# Altium schematic symbol library ATTINY24_x1_p14-1.SchLib: 1 symbol
Pins are listed as number, name and electrical type; pins without a type are passive.

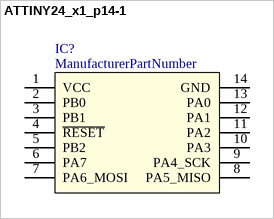
[diagram p0: symbol ATTINY24_x1_p14-1]

## ATTINY24_x1_p14-1
designator IC?
ATTINY24; ManufacturerPartNumber: ManufacturerPartNumber
pins: 1 VCC, 2 PB0, 3 PB1, 4 ~{RESET}, 5 PB2, 6 PA7, 7 PA6_MOSI, 8 PA5_MISO, 9 PA4_SCK, 10 PA3, 11 PA2, 12 PA1, 13 PA0, 14 GND